# EAGLE library part HX711 (library HX711 - GroundStudio)
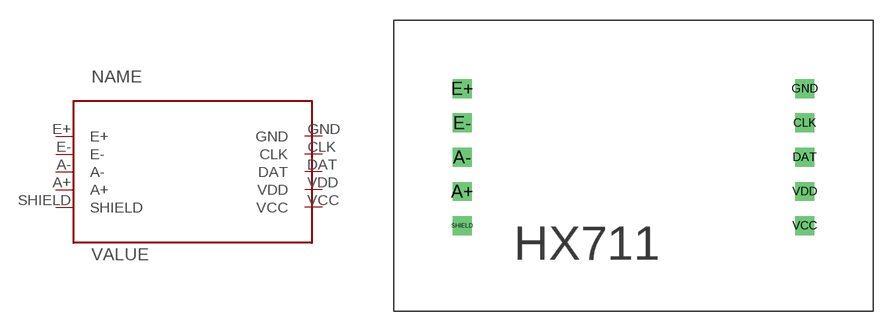
[diagram p0: symbol with the pads of HX711; footprint HX711]

Designator prefix -

## HX711A  [HX711]
A+  A+
A-  A-
CLK  CLK
DAT  DAT
E+  E+
E-  E-
GND  GND
SHIELD  SHIELD
VCC  VCC
VDD  VDD

## HX711  [HX711]
Pads as for HX711

## Footprint HX711 (pad centres in mm)
drill 0.9 square: A+ -12.7,-2.54; A- -12.7,0; CLK 12.7,2.54; DAT 12.7,0; E+ -12.7,5.08; E- -12.7,2.54; GND 12.7,5.08; SHIELD -12.7,-5.08; VCC 12.7,-5.08; VDD 12.7,-2.54